# Altium footprint library joystick.PcbLib: 1 footprints
Each footprint in its own frame and in the unit in brackets; x right, y up, seen from the top. Pads: shape width x height; smd on the part's side, far side on the other; paste and mask are expansions set on the pad; w line width, h text height; cw(c..) or ccw(c..) is an arc to the next point about the centre after c.
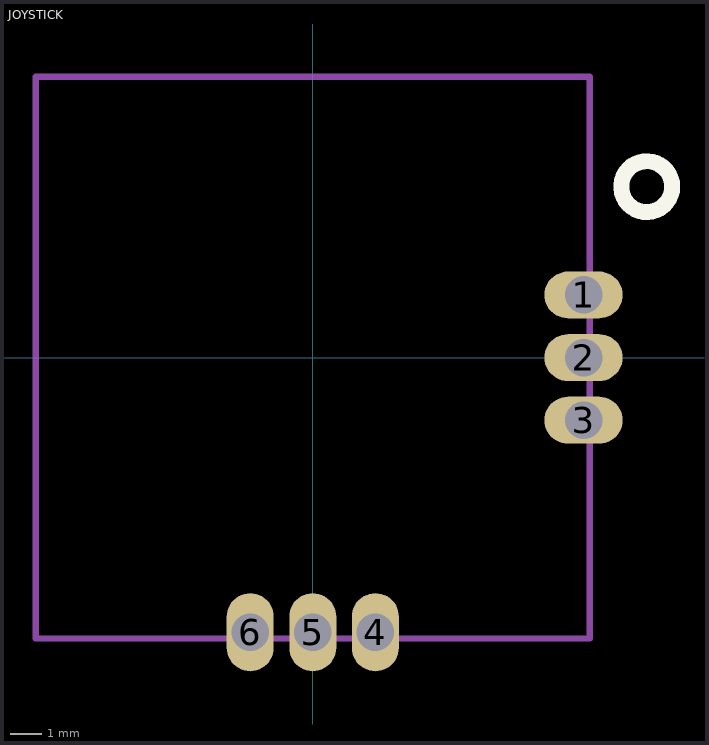
[diagram p0: the footprint, top view; thin cyan lines are the x and y axes]

## JOYSTICK [mm]
pads (6):
  oval 2.5x1.5 hole 1.2: 1(8.65,2) 2(8.65,0) 3(8.65,-2)
  oval 1.5x2.5 hole 1.2: 4(2,-8.775) 5(0,-8.775) 6(-2,-8.775)
Top Overlay:
  circle w0.508: c10.668,5.461 r0.813
Mechanical 1:
  lines w0.2: -8.85,-8.975 8.85,-8.975 8.85,8.975 -8.85,8.975 -8.85,-8.975
3D body: height 3.5, standoff 0, extent -8.85,-8.975 8.85,8.975